# Altium footprint library PCB12.PcbLib: 44 footprints (part 3 of 3)
Each footprint in its own frame and in the unit in brackets; x right, y up, seen from the top. Pads: shape width x height; smd on the part's side, far side on the other; paste and mask are expansions set on the pad; w line width, h text height; cw(c..) or ccw(c..) is an arc to the next point about the centre after c.
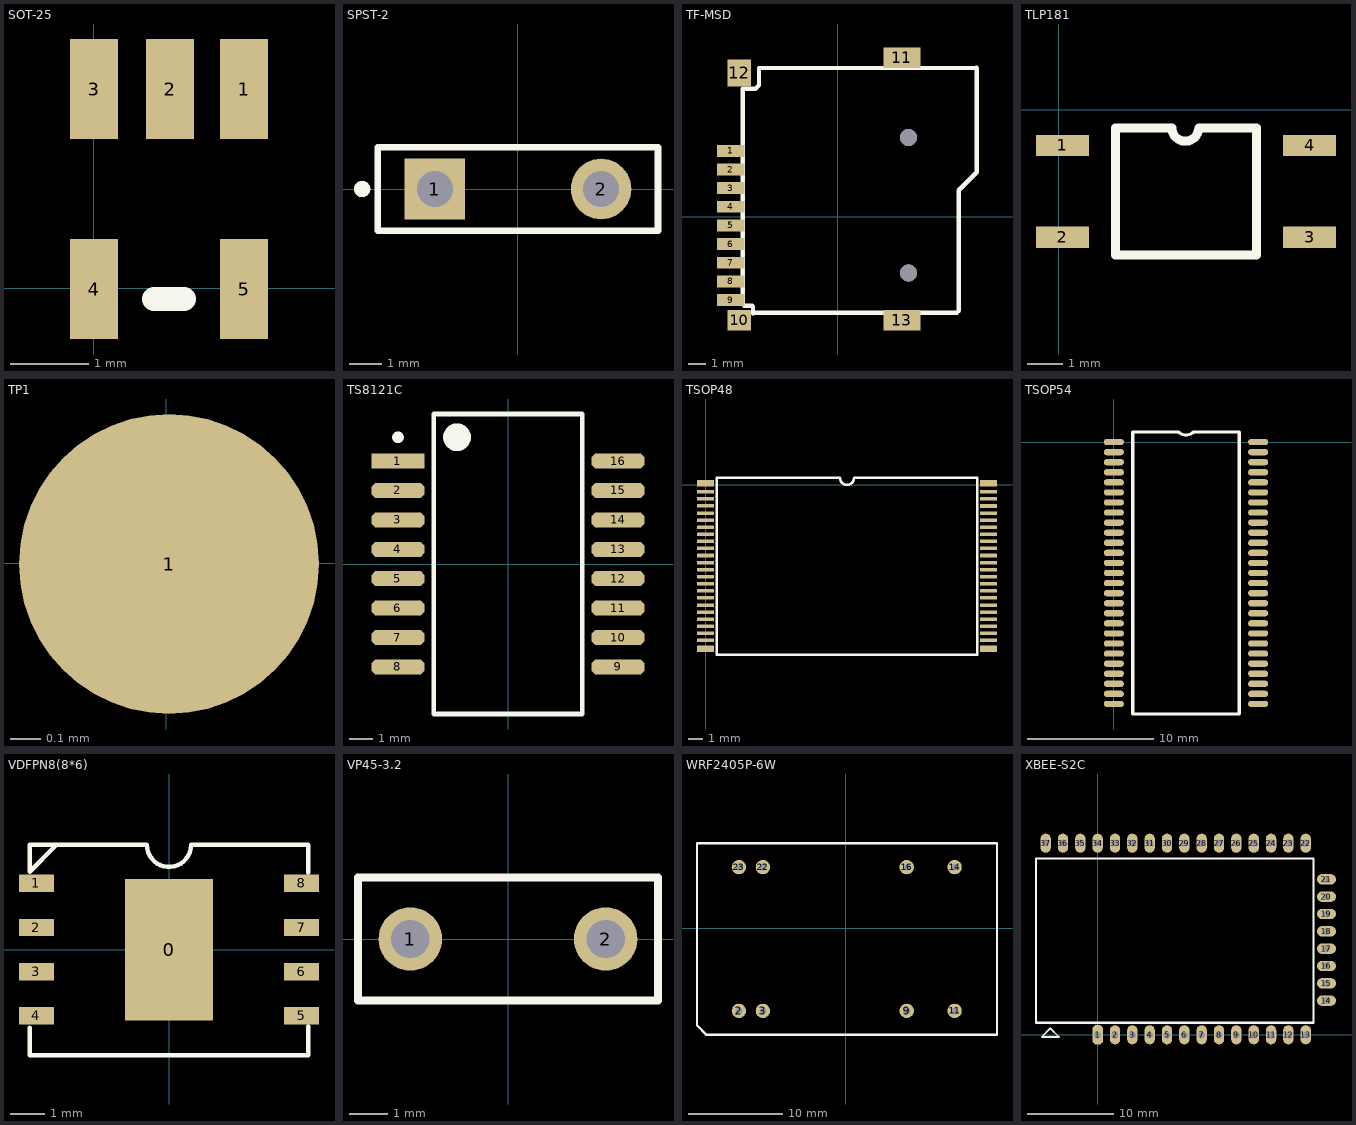
[diagram p2: the footprints below, top view; thin cyan lines are the x and y axes]

## SOT-25 [mil]
pads (5):
  rect 24x50 smd: 1(75.24,99.55) 2(38.24,99.55) 3(0.24,99.55) 4(0.24,-0.45) 5(75.24,-0.45)
Top Overlay:
  lines w12: 30.24,-5.45 45.24,-5.45

## SPST-2 [mm] "Circuit Breaker; 2 Leads"
pads (2):
  rect 1.85x1.85 hole 1.1: 1(-2.54,0)
  round 1.85 hole 1.1: 2(2.54,0)
Top Overlay:
  circle w0.25: c-4.761,-0.001 r0.125
  lines w0.2: -4.28,-1.27 -4.28,1.27 4.28,1.27 4.28,-1.27 -4.28,-1.27

## TF-MSD [mm]
pads (13):
  rect 1.6x0.7 smd: 1(-6.32,3.901) 2(-6.32,2.801) 3(-6.32,1.701) 4(-6.32,0.601) 5(-6.32,-0.499) 6(-6.32,-1.599) 7(-6.32,-2.699) 8(-6.32,-3.799) 9(-6.32,-4.899)
  rect 1.4x1.2 smd: 10(-5.82,-6.099)
  rect 2.2x1.2 smd: 11(3.78,9.401) 13(3.78,-6.099)
  rect 1.4x1.6 smd: 12(-5.82,8.501)
via 4.18,4.701 diameter 1 hole 1
via 4.18,-3.299 diameter 1 hole 1
Top Layer:
  lines w0.254: -5.008,-5.693 -4.958,-5.642
Top Overlay:
  lines w0.254: -5.008,-5.693 -5.008,-5.286 -5.059,-5.235 -5.516,-5.235 -5.618,-5.134 -5.618,7.566 -4.856,7.566 -4.653,7.769 -4.653,8.785 8.18,8.801 ; -4.958,-5.642 7.031,-5.642 7.133,-5.54 7.133,1.572 8.2,2.639 8.2,8.781

## TLP181 [mm]
pads (4):
  rect 1.5x0.6 smd: 1(0.1,-1.016) 2(0.1,-3.616) 3(7.1,-3.616) 4(7.1,-1.016)
Top Overlay:
  lines w0.254: 1.6,-4.116 5.6,-4.116 5.6,-0.516 4,-0.516 ; 1.6,-4.091 1.6,-0.516 3.2,-0.516 ccw(c3.581,-0.516) 3.962,-0.516

## TP1 [mm]
pads (1):
  round 1 smd: 1(0.009,-0.003)

## TS8121C [mm] "CFP, 16-Leads, Body 12.9x7.0mm (max), Pitch 1.27mm, IPC Medium Density"
height 5.5
pads (16):
  rect 2.3x0.65 smd: 1(-4.75,4.445)
  oct 2.3x0.65 smd: 2(-4.75,3.175) 3(-4.75,1.905) 4(-4.75,0.635) 5(-4.75,-0.635) 6(-4.75,-1.905) 7(-4.75,-3.175) 8(-4.75,-4.445) 9(4.75,-4.445) 10(4.75,-3.175) 11(4.75,-1.905) 12(4.75,-0.635) 13(4.75,0.635) 14(4.75,1.905) 15(4.75,3.175) 16(4.75,4.445)
Top Overlay:
  circle w0.6: c-2.2,5.475 r0.3
  circle w0.25: c-4.75,5.47 r0.125
  lines w0.2: -3.2,-6.475 -3.2,6.475 3.2,6.475 3.2,-6.475 -3.2,-6.475

## TSOP48 [mm]
pads (48):
  rect 1.2x0.45 smd: 1(-0.021,0.113) 24(-0.021,-11.587) 25(19.979,-11.587) 48(19.979,0.113)
  rect 1.2x0.25 smd: 2(-0.021,-0.487) 3(-0.021,-0.987) 4(-0.021,-1.487) 5(-0.021,-1.987) 6(-0.021,-2.487) 7(-0.021,-2.987) 8(-0.021,-3.487) 9(-0.021,-3.987) 10(-0.021,-4.487) 11(-0.021,-4.987) 12(-0.021,-5.487) 13(-0.021,-5.987) 14(-0.021,-6.487) 15(-0.021,-6.987) 16(-0.021,-7.487) 17(-0.021,-7.987) 18(-0.021,-8.487) 19(-0.021,-8.987) 20(-0.021,-9.487) 21(-0.021,-9.987) 22(-0.021,-10.487) 23(-0.021,-10.987) 26(19.979,-10.987) 27(19.979,-10.487) 28(19.979,-9.987) 29(19.979,-9.487) 30(19.979,-8.987) 31(19.979,-8.487) 32(19.979,-7.987) 33(19.979,-7.487) 34(19.979,-6.987) 35(19.979,-6.487) 36(19.979,-5.987) 37(19.979,-5.487) 38(19.979,-4.987) 39(19.979,-4.487) 40(19.979,-3.987) 41(19.979,-3.487) 42(19.979,-2.987) 43(19.979,-2.487) 44(19.979,-1.987) 45(19.979,-1.487) 46(19.979,-0.987) 47(19.979,-0.487)
Top Overlay:
  lines w0.178: 0.779,-11.987 0.779,0.513 9.479,0.513 ccw(c9.979,0.513) 10.479,0.513 19.179,0.513 19.179,-11.987 0.779,-11.987

## TSOP54 [mm]
pads (54):
  oval 1.6x0.5 smd: 1(-0.007,-0.003) 2(-0.007,-0.803) 3(-0.007,-1.603) 4(-0.007,-2.403) 5(-0.007,-3.203) 6(-0.007,-4.003) 7(-0.007,-4.803) 8(-0.007,-5.603) 9(-0.007,-6.403) 10(-0.007,-7.203) 11(-0.007,-8.003) 12(-0.007,-8.803) 13(-0.007,-9.603) 14(-0.007,-10.403) 15(-0.007,-11.203) 16(-0.007,-12.003) 17(-0.007,-12.803) 18(-0.007,-13.603) 19(-0.007,-14.403) 20(-0.007,-15.203) 21(-0.007,-16.003) 22(-0.007,-16.803) 23(-0.007,-17.603) 24(-0.007,-18.403) 25(-0.007,-19.203) 26(-0.007,-20.003) 27(-0.007,-20.803) 28(11.453,-20.803) 29(11.453,-20.003) 30(11.453,-19.203) 31(11.453,-18.403) 32(11.453,-17.603) 33(11.453,-16.803) 34(11.453,-16.003) 35(11.453,-15.203) 36(11.453,-14.403) 37(11.453,-13.603) 38(11.453,-12.803) 39(11.453,-12.003) 40(11.453,-11.203) 41(11.453,-10.403) 42(11.453,-9.603) 43(11.453,-8.803) 44(11.453,-8.003) 45(11.453,-7.203) 46(11.453,-6.403) 47(11.453,-5.603) 48(11.453,-4.803) 49(11.453,-4.003) 50(11.453,-3.203) 51(11.453,-2.403) 52(11.453,-1.603) 53(11.453,-0.803) 54(11.453,-0.003)
Top Overlay:
  lines w0.254: 1.493,-21.603 9.953,-21.603 9.953,0.797 6.314,0.797 cw(c5.723,1.388) 5.132,0.797 1.493,0.797 1.493,-21.603

## VDFPN8(8*6) [mm]
pads (9):
  rect 2.54x4.064 smd: 0(0,0)
  rect 1x0.5 smd: 1(-3.81,1.905) 2(-3.81,0.635) 3(-3.81,-0.635) 4(-3.81,-1.905) 5(3.81,-1.905) 6(3.81,-0.635) 7(3.81,0.635) 8(3.81,1.905)
Top Overlay:
  lines w0.127: -4,-2.24 -4,-3.035 4,-3.035 4,-2.205 ; -3.23,3.01 -4,2.24 -4,3.01 -0.635,3.01 ccw(c0,3.01) 0.635,3.01 4,3.01 4,2.205

## VP45-3.2 [mm] "Capacitor, Ceramic, Thru-Hole, Dipped Radial; Body 7.8 x 3.2 mm (WxT) Pin Spacing 5.08 mm (typ)"
height 6
pads (2):
  round 1.65 hole 1: 1(-2.54,0) 2(2.54,0)
Top Overlay:
  lines w0.2: -3.9,-1.6 3.9,-1.6 3.9,1.6 -3.9,1.6 -3.9,-1.6

## WRF2405P-6W [mil]
pads (8):
  round 60 hole 30: 2(-445,-345) 3(-345,-345) 9(255,-345) 11(455,-345) 14(455,255) 16(255,255) 22(-345,255) 23(-445,255)
Top Overlay:
  lines w10: -620,-405 -620,355 631.97,355 631.97,-445 -580,-445 -620,-405

## XBEE-S2C [mm]
pads (37):
  oct 1.2x2.2 hole 0.8: 1(0,0)
  oval 1.2x2.2 hole 0.8: 2(2,0) 3(4,0) 4(6,0) 5(8,0) 6(10,0) 7(12,0) 8(14,0) 9(16,0) 10(18,0) 11(20,0) 12(22,0) 13(24,0) 22(24,22.095) 23(22,22.095) 24(20,22.095) 25(18,22.095) 26(16,22.095) 27(14,22.095) 28(12,22.095) 29(10,22.095) 30(8,22.095) 31(6,22.095) 32(4,22.095) 33(2,22.095) 34(0,22.095) 35(-2,22.095) 36(-4,22.095) 37(-6,22.095)
  oval 2.2x1.2 hole 0.8: 14(26.389,3.934) 15(26.389,5.934) 16(26.389,7.934) 17(26.389,9.934) 18(26.389,11.934) 19(26.389,13.934) 20(26.389,15.934) 21(26.389,17.934)
Top Overlay:
  lines w0.2: -6.461,-0.254 -5.461,0.746 -4.461,-0.254 -6.461,-0.254
  lines w0.254: -7.112,1.397 24.892,1.397 24.892,20.32 -7.112,20.32 -7.112,1.397